# Altium footprint library ADP2164.PcbLib: 1 footprints
Each footprint in its own frame and in the unit in brackets; x right, y up, seen from the top. Pads: shape width x height; smd on the part's side, far side on the other; paste and mask are expansions set on the pad; w line width, h text height; cw(c..) or ccw(c..) is an arc to the next point about the centre after c.
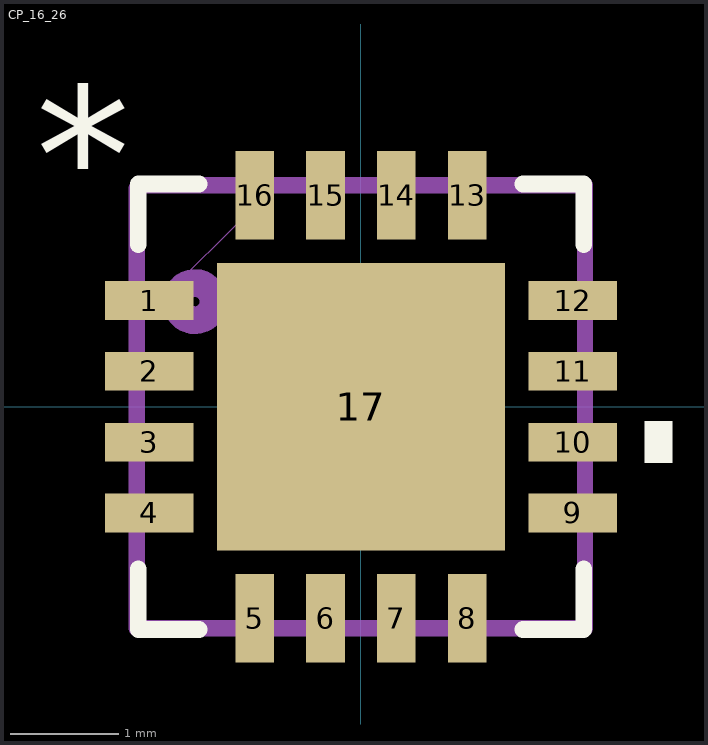
[diagram p0: the footprint, top view; thin cyan lines are the x and y axes]

## CP_16_26 [mil]
pads (17):
  rect 32x14 smd mask+4: 1(-76.5,38.39) 2(-76.5,12.8) 3(-76.5,-12.8) 4(-76.5,-38.39) 9(76.5,-38.39) 10(76.5,-12.8) 11(76.5,12.8) 12(76.5,38.39)
  rect 14x32 smd mask+4: 5(-38.39,-76.5) 6(-12.8,-76.5) 7(12.8,-76.5) 8(38.39,-76.5) 13(38.39,76.5) 14(12.8,76.5) 15(-12.8,76.5) 16(-38.39,76.5)
  rect 104x104 smd mask-51.5: 17(0,0)
Top Overlay:
  region: 102.5,-5.3 112.5,-5.3 112.5,-20.3 102.5,-20.3
  lines w6: -80.5,-58.49 -80.5,-80.5 -58.49,-80.5 ; -80.5,58.49 -80.5,80.5 -58.49,80.5 ; 58.49,-80.5 80.5,-80.5 80.5,-58.49 ; 58.49,80.5 80.5,80.5 80.5,58.49
  text "*" at -117.5,66.18 h50
Mechanical 1:
  lines w0: -80.5,30.5 -30.5,80.5 ; -80.5,-80.5 -80.5,80.5 80.5,80.5 80.5,-80.5 -80.5,-80.5 ; -80.5,-45.39 -80.5,-31.39 -80.5,-45.39 ; -80.5,-19.8 -80.5,-5.8 -80.5,-19.8 ; -80.5,5.8 -80.5,19.8 -80.5,5.8 ; -80.5,31.39 -80.5,45.39 -80.5,31.39 ; -45.39,-80.5 -31.39,-80.5 -45.39,-80.5 ; -45.39,80.5 -31.39,80.5 -45.39,80.5 ; -19.8,-80.5 -5.8,-80.5 -19.8,-80.5 ; -19.8,80.5 -5.8,80.5 -19.8,80.5 ; 5.8,-80.5 19.8,-80.5 5.8,-80.5 ; 5.8,80.5 19.8,80.5 5.8,80.5 ; 31.39,-80.5 45.39,-80.5 31.39,-80.5 ; 31.39,80.5 45.39,80.5 31.39,80.5 ; 80.5,-45.39 80.5,-31.39 80.5,-45.39 ; 80.5,-19.8 80.5,-5.8 80.5,-19.8 ; 80.5,5.8 80.5,19.8 80.5,5.8 ; 80.5,31.39 80.5,45.39 80.5,31.39
  text "*" at -117.5,66.18 h50
Mechanical 29:
  lines w5.91: -81,79 -81,-80 81,-80 81,80 -80,80
  lines w10: -53.64,40.12 ccw(c-60,38) -53.38,39.1
  text ".Designator" at -54,-18 h40
3D body: height 31.5, standoff 0, extent -80.5,-80.5 80.5,80.5